# Altium footprint library TAS5630BDKD.PcbLib: 1 footprints
Each footprint in its own frame and in the unit in brackets; x right, y up, seen from the top. Pads: shape width x height; smd on the part's side, far side on the other; paste and mask are expansions set on the pad; w line width, h text height; cw(c..) or ccw(c..) is an arc to the next point about the centre after c.
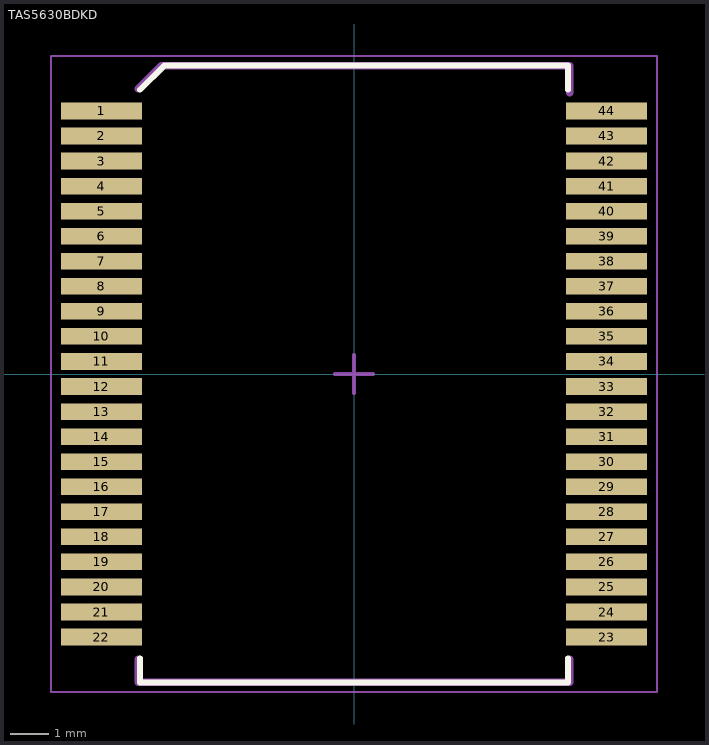
[diagram p0: the footprint, top view; thin cyan lines are the x and y axes]

## TAS5630BDKD [mil]
pads (44):
  rect 83x17 smd paste-2.21 mask+1.97: 1(-258,268.7) 2(-258,243.11) 3(-258,217.52) 4(-258,191.93) 5(-258,166.34) 6(-258,140.75) 7(-258,115.16) 8(-258,89.57) 9(-258,63.98) 10(-258,38.39) 11(-258,12.8) 12(-258,-12.8) 13(-258,-38.39) 14(-258,-63.98) 15(-258,-89.57) 16(-258,-115.16) 17(-258,-140.75) 18(-258,-166.34) 19(-258,-191.93) 20(-258,-217.52) 21(-258,-243.11) 22(-258,-268.7) 23(258,-268.7) 24(258,-243.11) 25(258,-217.52) 26(258,-191.93) 27(258,-166.34) 28(258,-140.75) 29(258,-115.16) 30(258,-89.57) 31(258,-63.98) 32(258,-38.39) 33(258,-12.8) 34(258,12.8) 35(258,38.39) 36(258,63.98) 37(258,89.57) 38(258,115.16) 39(258,140.75) 40(258,166.34) 41(258,191.93) 42(258,217.52) 43(258,243.11) 44(258,268.7)
Top Overlay:
  lines w6: -218.5,-290.3 -218.5,-315 218.5,-315 218.5,-290.3 ; -218.5,290.3 -193.8,315 218.5,315 218.5,290.3
Mechanical 1:
  lines w7.87: -220.47,-291.34 -220.47,-314.96 220.47,-314.96 220.47,-291.34 ; -220.47,291.34 -196.85,314.96 220.47,314.96 220.47,287.4
  text ".Designator" at -132.83,-21.98 h25.59
Mechanical 2:
  lines w1.97: -309.5,-325 -309.5,325 309.5,325 309.5,-325 -309.5,-325
  lines w3.94: -19.69,0 19.68,0 ; 0,-19.68 0,19.68
3D body "DKD0044A.stp": height 137.8, standoff 0, extent -280.3,-312.99 280.3,312.99